# Altium schematic symbol library TC4420COA.SchLib: 1 symbol
Pins are listed as number, name and electrical type; pins without a type are passive.

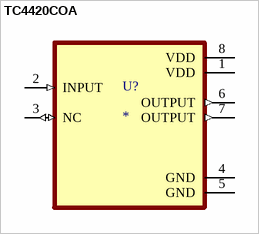
[diagram p0: symbol TC4420COA]

## TC4420COA
designator U?
Microchip TC4420COA,MOSFET Power Driver 6A,4.5 to 18V,Non-Inverting,8-Pin SOIC | Microchip Technology Inc. TC4420COA; SnapEDA_Link: https://www.snapeda.com/parts/TC4420COA/Microchip/view-part/?ref=snap; Package: SOIC-8 Microchip; Value: *; MF: Microchip Technology; MP: TC4420COA; Check_prices: https://www.snapeda.com/parts/TC4420COA/Microchip/view-part/?ref=eda
footprint SOIC127P599X175-8N
pins: 1 VDD (power), 2 INPUT (in), 3 NC (io), 4 GND (power), 5 GND (power), 6 OUTPUT (out), 7 OUTPUT (out), 8 VDD (power)